# EAGLE library part ICS551 (library rfops)
IDT Clock Distribution IC
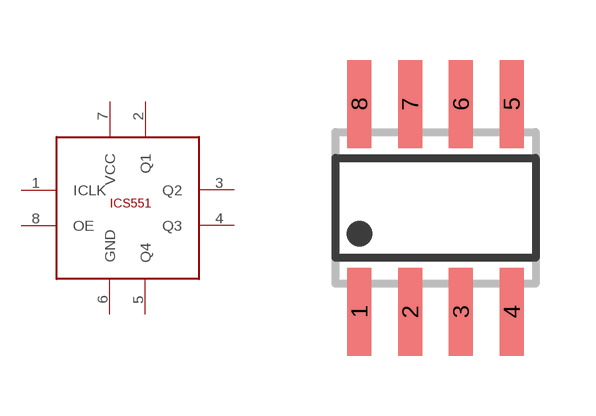
[diagram p24: symbol with the pads of SOIC8; footprint SOIC8]

Designator prefix IC

## ICS551  [SOIC8]
1  ICLK  in
2  Q1  out
3  Q2  out
4  Q3  out
5  Q4  out
6  GND  pwr
7  VCC  pwr
8  OE  in

## Footprint SOIC8 (pad centres in mm)
Small Outline IC
smd 0.6 x 2.2: 1 -1.905,-2.6; 2 -0.635,-2.6; 3 0.635,-2.6; 4 1.905,-2.6; 5 1.905,2.6; 6 0.635,2.6; 7 -0.635,2.6; 8 -1.905,2.6